# EAGLE library part 2X3SMT (library jason_eagle6)
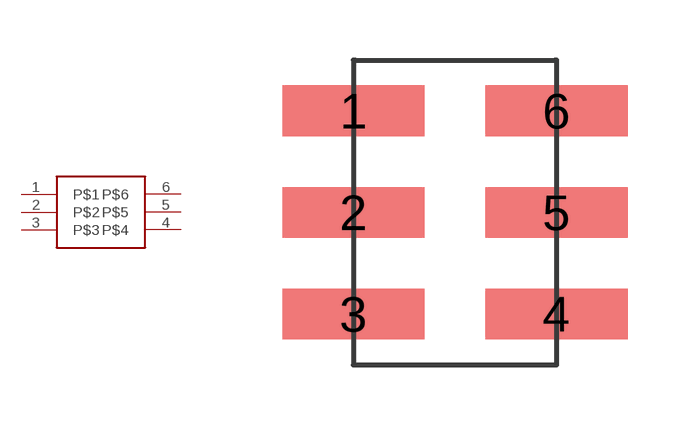
[diagram p64: symbol with the pads of 2X3SMT; footprint 2X3SMT]

Designator prefix -

## 2X3SMT  [2X3SMT]
1  P$1
2  P$2
3  P$3
4  P$4
5  P$5
6  P$6

## Footprint 2X3SMT (pad centres in mm)
smd 3.56 x 1.27: 1 -2.54,2.54; 2 -2.54,0; 3 -2.54,-2.54; 4 2.54,-2.54; 5 2.54,0; 6 2.54,2.54